# Altium footprint library BAT60J.PcbLib: 1 footprints
Each footprint in its own frame and in the unit in brackets; x right, y up, seen from the top. Pads: shape width x height; smd on the part's side, far side on the other; paste and mask are expansions set on the pad; w line width, h text height; cw(c..) or ccw(c..) is an arc to the next point about the centre after c.
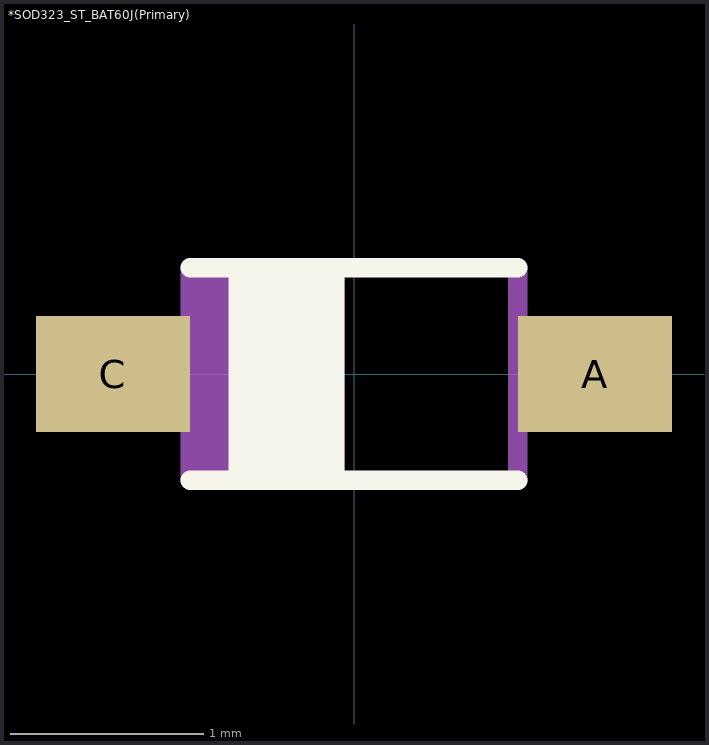
[diagram p0: the footprint, top view; thin cyan lines are the x and y axes]

## *SOD323_ST_BAT60J(Primary) [mm]
pads (2):
  rect 0.8x0.6 smd: A(1.25,0) C(-1.25,0)
Top Overlay:
  region: -0.65,0.55 -0.05,0.55 -0.05,-0.55 -0.65,-0.55
  lines w0.102: -0.85,-0.55 0.85,-0.55 ; -0.85,0.55 0.85,0.55
Mechanical 4:
  region: -0.85,0.55 -0.05,0.55 -0.05,-0.55 -0.85,-0.55
  region: 0.8,0.15 1.35,0.15 1.35,-0.15 0.8,-0.15
  region: -1.35,0.15 -0.8,0.15 -0.8,-0.15 -1.35,-0.15
  region: -0.85,0.55 -0.05,0.55 -0.05,-0.55 -0.85,-0.55
  region: 0.8,0.15 1.35,0.15 1.35,-0.15 0.8,-0.15
  region: -1.35,0.15 -0.8,0.15 -0.8,-0.15 -1.35,-0.15
  lines w0.102: -0.85,-0.55 -0.85,0.55 -0.85,-0.55 ; 0.85,-0.55 0.85,0.55 0.85,-0.55